# EAGLE library part ARDUINO_PRO_MINI (library Arduino_Pro_Mini@S&G)
Aduino Pro Mini from sparkfun electronics 2015 © S&G Cie.
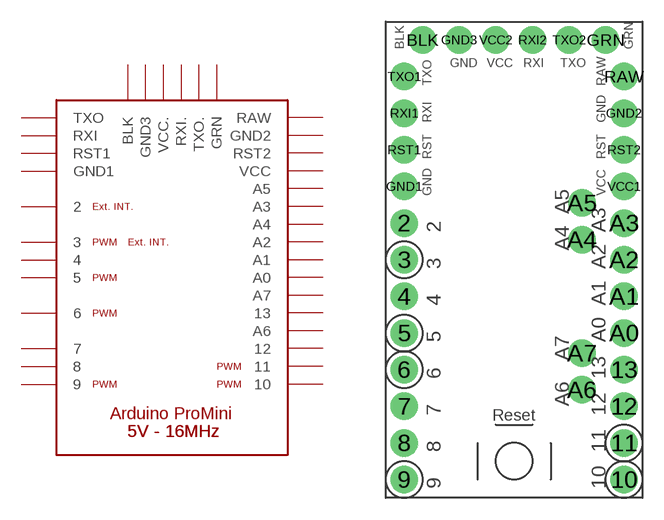
[diagram p0: symbol with the pads of ARDUINO_PRO_MINI; footprint ARDUINO_PRO_MINI]

Designator prefix -

## ARDUINO_PRO_MINI  [ARDUINO_PRO_MINI]
2  2
3  3
4  4
5  5
6  6
7  7
8  8
9  9
10  10
11  11
12  12
13  13
A0  A0
A1  A1
A2  A2
A3  A3
A4  A4
A5  A5
A6  A6
A7  A7
BLK  BLK
GND1  GND1
GND2  GND2
GND3  GND3
GRN  GRN
RAW  RAW
RST1  RST1
RST2  RST2
RXI1  RXI
RXI2  RXI.
TXO1  TXO
TXO2  TXO.
VCC1  VCC
VCC2  VCC.

## Footprint ARDUINO_PRO_MINI (pad centres in mm)
drill 1 pad 1.9: 2 -7.62,2.54; 3 -7.62,0; 4 -7.62,-2.54; 5 -7.62,-5.08; 6 -7.62,-7.62; 7 -7.62,-10.16; 8 -7.62,-12.7; 9 -7.62,-15.24; 10 7.62,-15.24; 11 7.62,-12.7; 12 7.62,-10.16; 13 7.62,-7.62; A0 7.62,-5.08; A1 7.62,-2.54; A2 7.62,0; A3 7.62,2.54; A4 4.699,1.397; A5 4.699,3.937; A6 4.699,-9.017; A7 4.699,-6.477; BLK -6.35,15.24; GND1 -7.62,5.08; GND2 7.62,10.16; GND3 -3.81,15.24; GRN 6.35,15.24; RAW 7.62,12.7; RST1 -7.62,7.62; RST2 7.62,7.62; RXI1 -7.62,10.16; RXI2 1.27,15.24; TXO1 -7.62,12.7; TXO2 3.81,15.24; VCC1 7.62,5.08; VCC2 -1.27,15.24